# Altium schematic symbol library 046809610110846+.SchLib: 1 symbol
Pins are listed as number, name and electrical type; pins without a type are passive.

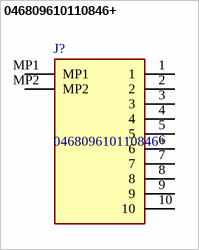
[diagram p0: symbol 046809610110846+]

## 046809610110846+
designator J?
10 Position FFC, FPC Connector Contacts, Bottom 0.020" (0.50mm) Surface Mount, Right Angle; Manufacturer_Name: Kyocera AVX; Geometry.Height: 1.03mm; Manufacturer_Part_Number: 046809610110846+; Mouser Part Number: 346-046809610110846+; Mouser Price/Stock: https://www.mouser.co.uk/ProductDetail/Kyocera-Electronic-Components/046809610110846%2b?qs=PzGy0jfpSMtD0JCHOxaC5w%3D%3D; Arrow Part Number: *; Arrow Price/Stock: *; Datasheet Link: https://ele.kyocera.com/assets/products/connector/drawing/BJS6809004.pdf
footprint 046809610110846
pins: 1, 2, 3, 4, 5, 6, 7, 8, 9, 10, MP1, MP2